# EAGLE library part DV-LPD5013 (library DPS-600WP)
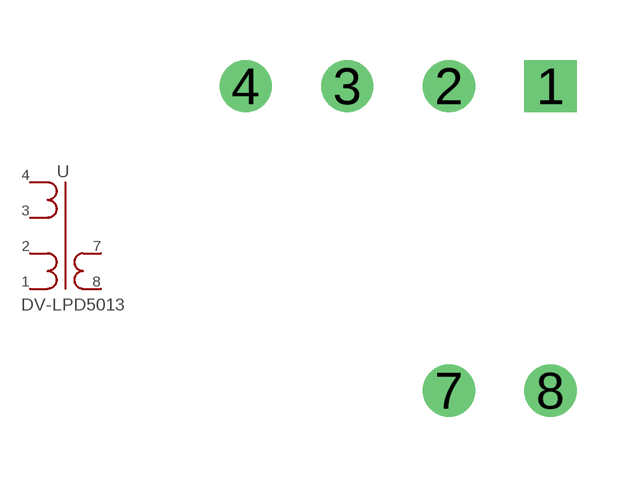
[diagram p0: symbol with the pads of DV-LPD5013; footprint DV-LPD5013]

Designator prefix -

## DV-LPD5013  [DV-LPD5013]
1  P$1
2  P$2
3  P$3
4  P$4
7  P$7
8  P$8

## Footprint DV-LPD5013 (pad centres in mm)
DCZM11228(06)D
drill 0.8 square: 1 3.81,3.81
drill 0.8: 2 1.27,3.81; 3 -1.27,3.81; 4 -3.81,3.81; 7 1.27,-3.81; 8 3.81,-3.81